# Altium schematic symbol library SL_Transducers.SchLib: 2 symbols
Pins are listed as number, name and electrical type; pins without a type are passive.

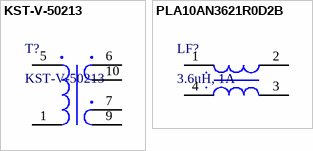
[diagram p0: symbols KST-V-50213 to PLA10AN3621R0D2B]

## KST-V-50213
designator T?
Pulse transducer 16W, 85-265V, 15V, 0.5A; Manufacturer_Name: Degson; Datasheet Link: https://cdn.promelec.ru/upload/items/2025/05/19/KODOTRANS/ef_20_6.pdf; Height: 0mm; Manufacturer_Part_Number: KST-V-50213
footprint KST-V-5021X
pins: 1, 5, 6, 7, 9, 10

## PLA10AN3621R0D2B
designator LF?, comment 3.6uH, 1A
EMI Suppression Filter, 3.6uH, 1A; Manufacturer_Name: Degson; Manufacturer_Part_Number: KST-V-50213; Datasheet Link: https://cdn.promelec.ru/upload/items/2025/05/19/KODOTRANS/ef_20_6.pdf; Height: 0mm
footprint PLA10AN
pins: 1, 2, 3, 4